# Altium footprint library QG-2832TSWFG04-2.PcbLib: 1 footprints
Each footprint in its own frame and in the unit in brackets; x right, y up, seen from the top. Pads: shape width x height; smd on the part's side, far side on the other; paste and mask are expansions set on the pad; w line width, h text height; cw(c..) or ccw(c..) is an arc to the next point about the centre after c.
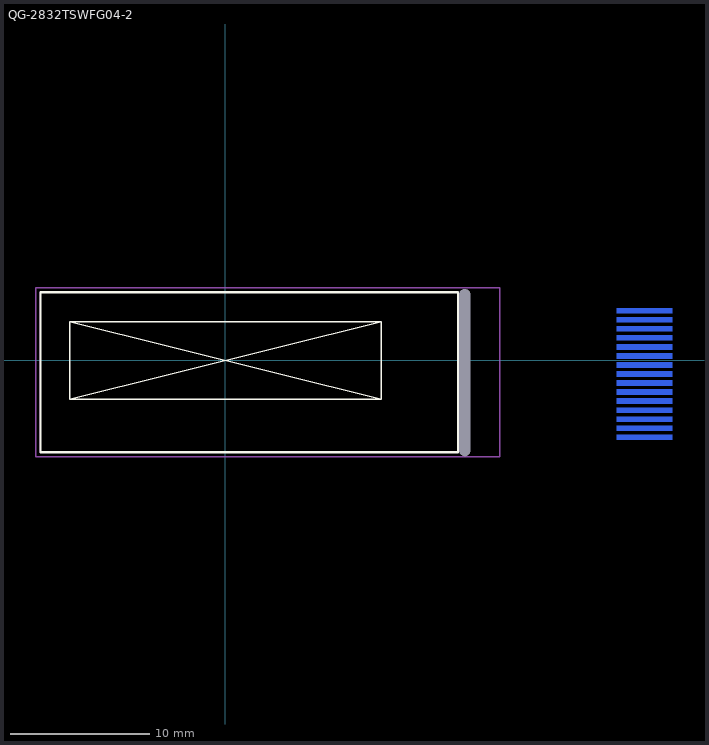
[diagram p0: the footprint, top view; thin cyan lines are the x and y axes]

## QG-2832TSWFG04-2 [mm]
height 1.2
pads (16):
  round 0 hole 0.8 slot 12 at 90 deg unplated: 0(17.208,-0.873)
  rect 4x0.38 smd far side: 1(30.108,-5.523) 2(30.108,-4.873) 3(30.108,-4.223) 4(30.108,-3.573) 5(30.108,-2.923) 6(30.108,-2.273) 7(30.108,-1.623) 8(30.108,-0.973) 9(30.108,-0.323) 10(30.108,0.327) 11(30.108,0.977) 12(30.108,1.627) 13(30.108,2.277) 14(30.108,2.927) 15(30.108,3.577)
Top Overlay:
  lines w0.1: -11.192,-2.792 11.192,2.792 ; -11.192,-2.792 -11.192,2.792 ; -11.192,-2.792 11.192,-2.792 ; -11.192,2.792 11.192,-2.792 ; -11.192,2.792 11.192,2.792 ; 11.192,-2.792 11.192,2.792
  lines w0.152: -13.292,4.892 -13.292,-6.598 16.708,-6.598 16.708,4.892 ; -13.292,4.902 16.708,4.902
Bottom Overlay:
  lines w0.1: 30.2,-6.18 23.07,-6.181 cw(c23.07,-4.911) 21.8,-4.911 21.8,0.932 cw(c22.632,0.932) 22.632,1.764 ccw(c22.632,3.034) 23.902,3.034 23.902,3.399 cw(c24.776,3.399) 24.776,4.273 30.2,4.273
  text "15" at 30.505,4.089 h1
  text "1" at 30.582,-6.375 h1
Mechanical 13:
  lines w0.1: -13.292,4.892 -13.292,-6.598 16.708,-6.598 16.708,4.892 ; -13.292,4.902 16.708,4.902
Mechanical 15:
  lines w0.1: -13.618,-6.924 19.708,-6.924 19.708,5.227 -13.618,5.227 -13.618,-6.924
3D body: height 1.12, standoff -1.37, extent -13.343,-6.54 18.163,5.156